# EAGLE library part BEAGLE_BONE_BLACK_CAPE (library SparkFun-Boards)
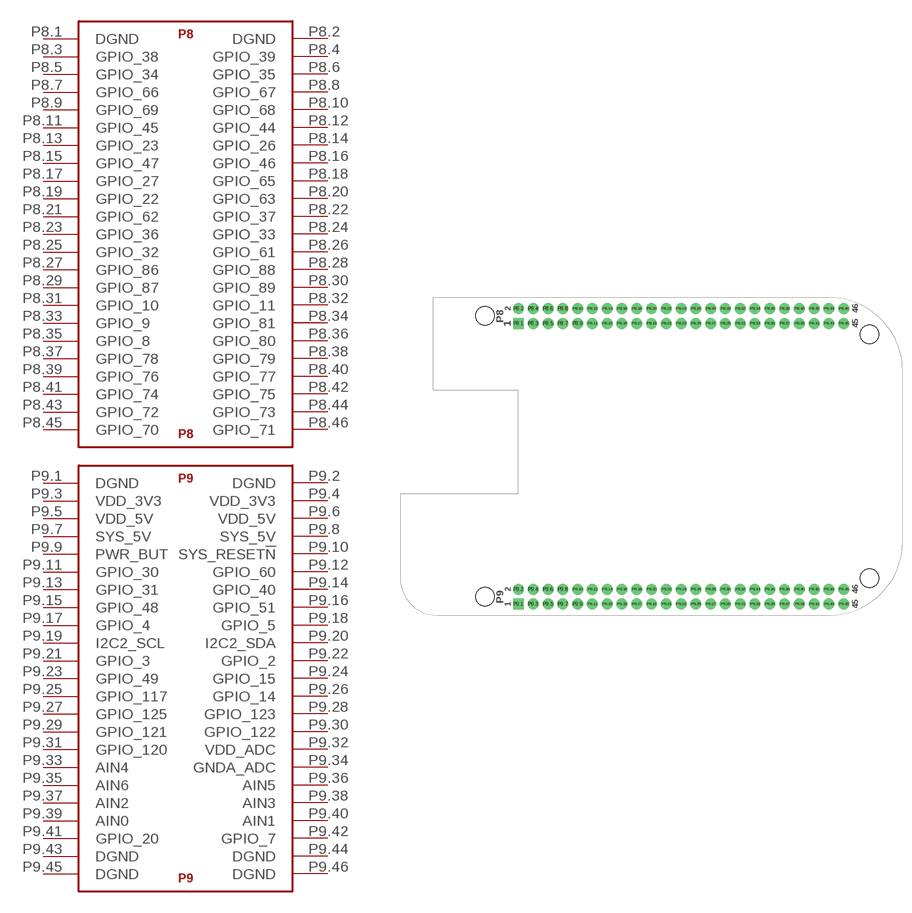
[diagram p15: symbol with the pads of BEAGLE_BONE_BLACK_CAPE; footprint BEAGLE_BONE_BLACK_CAPE]

Designator prefix -; gates P8=BEAGLE_BONE_BLACK_P8 P9=BEAGLE_BONE_BLACK_P9

## BEAGLE_BONE_BLACK_CAPE  [BEAGLE_BONE_BLACK_CAPE]
P8.1  P8:DGND
P8.2  P8:DGND
P8.3  P8:GPIO_38
P8.4  P8:GPIO_39
P8.5  P8:GPIO_34
P8.6  P8:GPIO_35
P8.7  P8:GPIO_66
P8.8  P8:GPIO_67
P8.9  P8:GPIO_69
P8.10  P8:GPIO_68
P8.11  P8:GPIO_45
P8.12  P8:GPIO_44
P8.13  P8:GPIO_23
P8.14  P8:GPIO_26
P8.15  P8:GPIO_47
P8.16  P8:GPIO_46
P8.17  P8:GPIO_27
P8.18  P8:GPIO_65
P8.19  P8:GPIO_22
P8.20  P8:GPIO_63
P8.21  P8:GPIO_62
P8.22  P8:GPIO_37
P8.23  P8:GPIO_36
P8.24  P8:GPIO_33
P8.25  P8:GPIO_32
P8.26  P8:GPIO_61
P8.27  P8:GPIO_86
P8.28  P8:GPIO_88
P8.29  P8:GPIO_87
P8.30  P8:GPIO_89
P8.31  P8:GPIO_10
P8.32  P8:GPIO_11
P8.33  P8:GPIO_9
P8.34  P8:GPIO_81
P8.35  P8:GPIO_8
P8.36  P8:GPIO_80
P8.37  P8:GPIO_78
P8.38  P8:GPIO_79
P8.39  P8:GPIO_76
P8.40  P8:GPIO_77
P8.41  P8:GPIO_74
P8.42  P8:GPIO_75
P8.43  P8:GPIO_72
P8.44  P8:GPIO_73
P8.45  P8:GPIO_70
P8.46  P8:GPIO_71
P9.1  P9:DGND
P9.2  P9:DGND
P9.3  P9:VDD_3V3
P9.4  P9:VDD_3V3
P9.5  P9:VDD_5V
P9.6  P9:VDD_5V
P9.7  P9:SYS_5V
P9.8  P9:SYS_5V
P9.9  P9:PWR_BUT
P9.10  P9:SYS_RESET!N
P9.11  P9:GPIO_30
P9.12  P9:GPIO_60
P9.13  P9:GPIO_31
P9.14  P9:GPIO_40
P9.15  P9:GPIO_48
P9.16  P9:GPIO_51
P9.17  P9:GPIO_4
P9.18  P9:GPIO_5
P9.19  P9:I2C2_SCL
P9.20  P9:I2C2_SDA
P9.21  P9:GPIO_3
P9.22  P9:GPIO_2
P9.23  P9:GPIO_49
P9.24  P9:GPIO_15
P9.25  P9:GPIO_117
P9.26  P9:GPIO_14
P9.27  P9:GPIO_125
P9.28  P9:GPIO_123
P9.29  P9:GPIO_121
P9.30  P9:GPIO_122
P9.31  P9:GPIO_120
P9.32  P9:VDD_ADC
P9.33  P9:AIN4
P9.34  P9:GNDA_ADC
P9.35  P9:AIN6
P9.36  P9:AIN5
P9.37  P9:AIN2
P9.38  P9:AIN3
P9.39  P9:AIN0
P9.40  P9:AIN1
P9.41  P9:GPIO_20
P9.42  P9:GPIO_7
P9.43  P9:DGND
P9.44  P9:DGND
P9.45  P9:DGND
P9.46  P9:DGND

## Footprint BEAGLE_BONE_BLACK_CAPE (pad centres in mm)
drill 1.016 pad 1.88 square: P8.1 20.32,50.165; P9.1 20.32,1.905
drill 1.016 pad 1.88: P8.2 20.32,52.705; P8.3 22.86,50.165; P8.4 22.86,52.705; P8.5 25.4,50.165; P8.6 25.4,52.705; P8.7 27.94,50.165; P8.8 27.94,52.705; P8.9 30.48,50.165; P8.10 30.48,52.705; P8.11 33.02,50.165; P8.12 33.02,52.705; P8.13 35.56,50.165; P8.14 35.56,52.705; P8.15 38.1,50.165; P8.16 38.1,52.705; P8.17 40.64,50.165; P8.18 40.64,52.705; P8.19 43.18,50.165; P8.20 43.18,52.705; P8.21 45.72,50.165; P8.22 45.72,52.705; P8.23 48.26,50.165; P8.24 48.26,52.705; P8.25 50.8,50.165; P8.26 50.8,52.705; P8.27 53.34,50.165; P8.28 53.34,52.705; P8.29 55.88,50.165; P8.30 55.88,52.705; P8.31 58.42,50.165; P8.32 58.42,52.705; P8.33 60.96,50.165; P8.34 60.96,52.705; P8.35 63.5,50.165; P8.36 63.5,52.705; P8.37 66.04,50.165; P8.38 66.04,52.705; P8.39 68.58,50.165; P8.40 68.58,52.705; P8.41 71.12,50.165; P8.42 71.12,52.705; P8.43 73.66,50.165; P8.44 73.66,52.705; P8.45 76.2,50.165; P8.46 76.2,52.705; P9.2 20.32,4.445; P9.3 22.86,1.905; P9.4 22.86,4.445; P9.5 25.4,1.905; P9.6 25.4,4.445; P9.7 27.94,1.905; P9.8 27.94,4.445; P9.9 30.48,1.905; P9.10 30.48,4.445; P9.11 33.02,1.905; P9.12 33.02,4.445; P9.13 35.56,1.905; P9.14 35.56,4.445; P9.15 38.1,1.905; P9.16 38.1,4.445; P9.17 40.64,1.905; P9.18 40.64,4.445; P9.19 43.18,1.905; P9.20 43.18,4.445; P9.21 45.72,1.905; P9.22 45.72,4.445; P9.23 48.26,1.905; P9.24 48.26,4.445; P9.25 50.8,1.905; P9.26 50.8,4.445; P9.27 53.34,1.905; P9.28 53.34,4.445; P9.29 55.88,1.905; P9.30 55.88,4.445; P9.31 58.42,1.905; P9.32 58.42,4.445; P9.33 60.96,1.905; P9.34 60.96,4.445; P9.35 63.5,1.905; P9.36 63.5,4.445; P9.37 66.04,1.905; P9.38 66.04,4.445; P9.39 68.58,1.905; P9.40 68.58,4.445; P9.41 71.12,1.905; P9.42 71.12,4.445; P9.43 73.66,1.905; P9.44 73.66,4.445; P9.45 76.2,1.905; P9.46 76.2,4.445
hole 3.175 at 14.605,3.175
hole 3.175 at 80.645,6.35
hole 3.175 at 80.645,48.26
hole 3.175 at 14.605,51.435